# EAGLE library part PIN10 (library mylib)
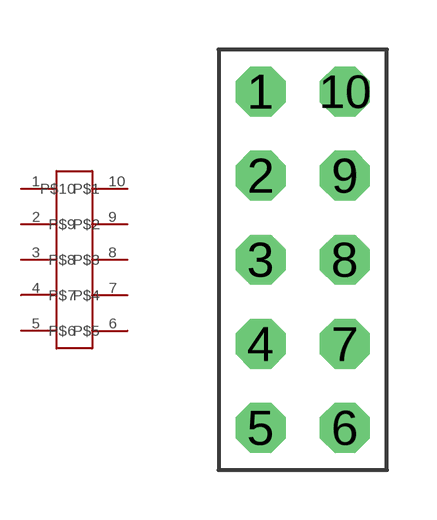
[diagram p4: symbol with the pads of PIN10; footprint PIN10]

Designator prefix -

## PIN10  [PIN10]
1  P$1
2  P$2
3  P$3
4  P$4
5  P$5
6  P$6
7  P$7
8  P$8
9  P$9
10  P$10

## Footprint PIN10 (pad centres in mm)
drill 1 octagon: 1 -1.27,5.08; 2 -1.27,2.54; 3 -1.27,0; 4 -1.27,-2.54; 5 -1.27,-5.08; 6 1.27,-5.08; 7 1.27,-2.54; 8 1.27,0; 9 1.27,2.54; 10 1.27,5.08